# Altium integrated library Cypress Clocks & Buffers Clock Distribution.IntLib: 321 symbols (part 2 of 25)
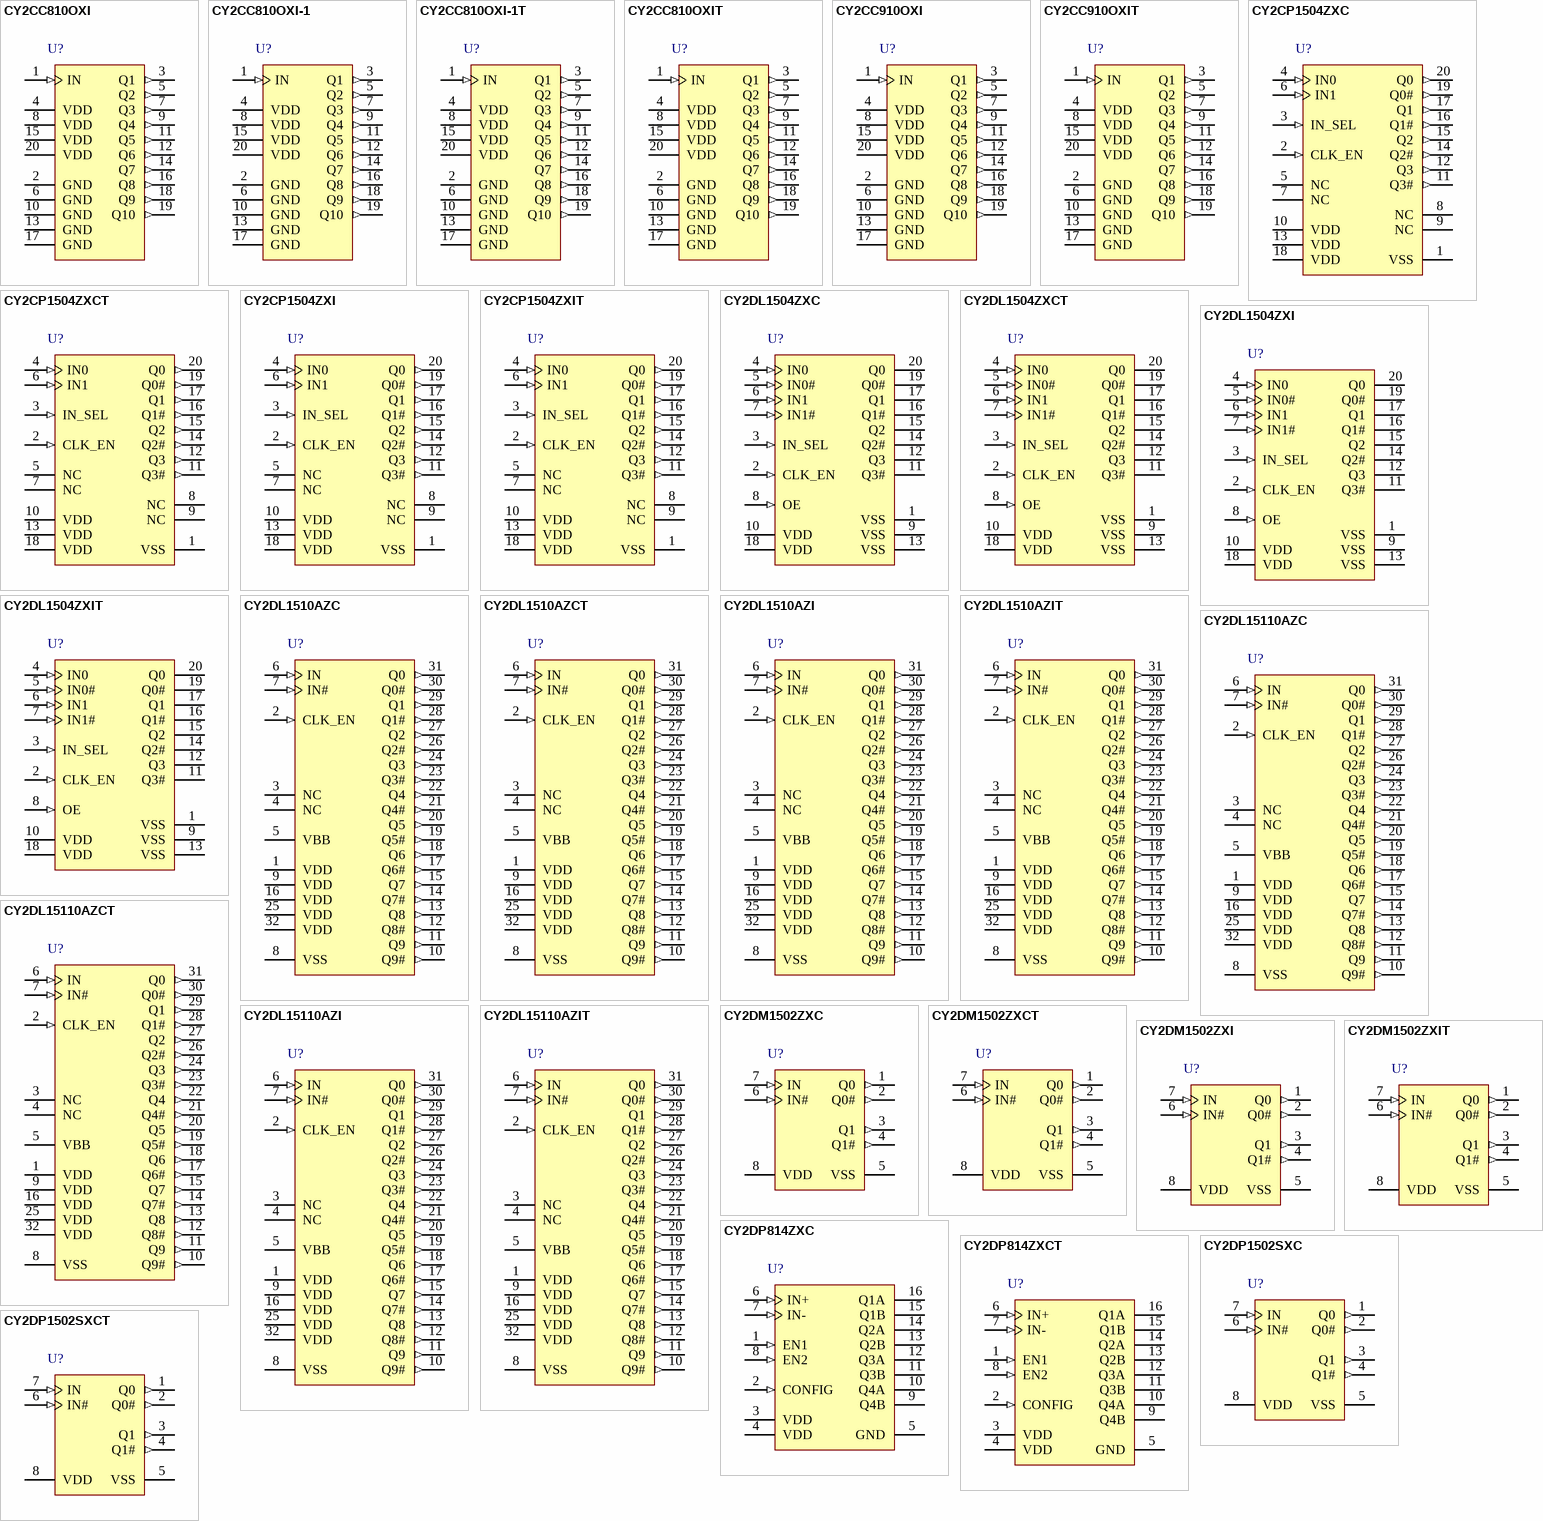
[diagram p17: symbols CY2CC810OXI to CY2DP1502SXCT]

## CY2DL15110AZI
designator U?
1:10 Differential LVDS Fanout Buffer with Selectable Clock Input, 2.5 / 3.3 V, 10 Outputs, 1500 MHz Maximum, -40 to 85 degC, 32-Pin TQFP (AX32), Tube; Manufacturer: Cypress; PartNumber: CY2DL15110AZI; Input Frequency Max. (MHz): 1500; Max. Operating Voltage (V): 3.465; Min. Operating Voltage (V): 2.375; No. of Outputs: 10; DatasheetVersion: Rev. *C; PackageVersion: Rev. *D, 07/2011; PackageReference: AX32; PackageDescription: 32-Pin Thin Plastic Quad Flatpack, Body 7 x 7 mm, Pitch 0.8 mm; Supplier 1: Digi-Key; Supplier Part Number 1: CY2DL15110AZI-ND; Supplier 2: Mouser; Supplier Part Number 2: 727-CY2DL15110AZI; Max. Operating Temp. (degreesC): 85; Min. Operating Temp. (degreesC): -40; Output Frequency Max. (MHz): 1500; Packing: Tube; RoHS: Pb-Free; Mounting Technology: Surface Mount; ComponentLink1Description: Manufacturer URL; ComponentLink1URL: http://www.cypress.com/; ComponentLink2Description: Datasheet; ComponentLink2URL: http://www.cypress.com/?docID=40977; ComponentLink3Description: Package Specification; ComponentLink3URL: http://www.cypress.com/?docID=39155
footprint CYP-AX32-51-85063_N (QFP, 32-Leads, Body 7x7mm, Pitch 0.8mm, IPC Medium Density)
footprint CYP-AX32-51-85063_L (QFP, 32-Leads, Body 7x7mm, Pitch 0.8mm, IPC High Density)
footprint CYP-AX32-51-85063_M (QFP, 32-Leads, Body 7x7mm, Pitch 0.8mm, IPC Low Density)
pins: 1 VDD (power) "Power supply", 2 CLK_EN (in) "Synchronous clock enable. Low-voltage complementary metal oxide semiconductor (LVCMOS)/low-voltage transistor-transistor-logic (LVTTL). When CLK_EN = Low, Q(0:9) outputs are held low and Q(0:9)# outputs are held high", 3 NC "No connection", 4 NC "No connection", 5 VBB (power) "LVDS reference voltage output", 6 IN (in) "LVDS input clock", 7 IN# (in) "LVDS complementary input clock", 8 VSS (power) "Ground", 9 VDD (power) "Power supply", 10 Q9# (out) "LVDS complementary output clocks", 11 Q9 (out) "LVDS output clocks", 12 Q8# (out) "LVDS complementary output clocks", 13 Q8 (out) "LVDS output clocks", 14 Q7# (out) "LVDS complementary output clocks", 15 Q7 (out) "LVDS output clocks", 16 VDD (power) "Power supply", 17 Q6# (out) "LVDS complementary output clocks", 18 Q6 (out) "LVDS output clocks", 19 Q5# (out) "LVDS complementary output clocks", 20 Q5 (out) "LVDS output clocks", 21 Q4# (out) "LVDS complementary output clocks", 22 Q4 (out) "LVDS output clocks", 23 Q3# (out) "LVDS complementary output clocks", 24 Q3 (out) "LVDS output clocks", 25 VDD (power) "Power supply", 26 Q2# (out) "LVDS complementary output clocks", 27 Q2 (out) "LVDS output clocks", 28 Q1# (out) "LVDS complementary output clocks", 29 Q1 (out) "LVDS output clocks", 30 Q0# (out) "LVDS complementary output clocks", 31 Q0 (out) "LVDS output clocks", 32 VDD (power) "Power supply"

## CY2DL15110AZIT
designator U?
1:10 Differential LVDS Fanout Buffer with Selectable Clock Input, 2.5 / 3.3 V, 10 Outputs, 1500 MHz Maximum, -40 to 85 degC, 32-Pin TQFP (AX32), Tape and Reel; Manufacturer: Cypress; PartNumber: CY2DL15110AZIT; Input Frequency Max. (MHz): 1500; Max. Operating Voltage (V): 3.465; Min. Operating Voltage (V): 2.375; No. of Outputs: 10; DatasheetVersion: Rev. *C; PackageVersion: Rev. *D, 07/2011; PackageReference: AX32; PackageDescription: 32-Pin Thin Plastic Quad Flatpack, Body 7 x 7 mm, Pitch 0.8 mm; Supplier 1: Digi-Key; Supplier Part Number 1: CY2DL15110AZIT-ND; Supplier 2: Mouser; Supplier Part Number 2: 727-CY2DL15110AZIT; Max. Operating Temp. (degreesC): 85; Min. Operating Temp. (degreesC): -40; Output Frequency Max. (MHz): 1500; Packing: Tape and Reel; RoHS: Pb-Free; Mounting Technology: Surface Mount; ComponentLink1Description: Manufacturer URL; ComponentLink1URL: http://www.cypress.com/; ComponentLink2Description: Datasheet; ComponentLink2URL: http://www.cypress.com/?docID=40977; ComponentLink3Description: Package Specification; ComponentLink3URL: http://www.cypress.com/?docID=39155
footprint CYP-AX32-51-85063_N (QFP, 32-Leads, Body 7x7mm, Pitch 0.8mm, IPC Medium Density)
footprint CYP-AX32-51-85063_L (QFP, 32-Leads, Body 7x7mm, Pitch 0.8mm, IPC High Density)
footprint CYP-AX32-51-85063_M (QFP, 32-Leads, Body 7x7mm, Pitch 0.8mm, IPC Low Density)
pins: 1 VDD (power) "Power supply", 2 CLK_EN (in) "Synchronous clock enable. Low-voltage complementary metal oxide semiconductor (LVCMOS)/low-voltage transistor-transistor-logic (LVTTL). When CLK_EN = Low, Q(0:9) outputs are held low and Q(0:9)# outputs are held high", 3 NC "No connection", 4 NC "No connection", 5 VBB (power) "LVDS reference voltage output", 6 IN (in) "LVDS input clock", 7 IN# (in) "LVDS complementary input clock", 8 VSS (power) "Ground", 9 VDD (power) "Power supply", 10 Q9# (out) "LVDS complementary output clocks", 11 Q9 (out) "LVDS output clocks", 12 Q8# (out) "LVDS complementary output clocks", 13 Q8 (out) "LVDS output clocks", 14 Q7# (out) "LVDS complementary output clocks", 15 Q7 (out) "LVDS output clocks", 16 VDD (power) "Power supply", 17 Q6# (out) "LVDS complementary output clocks", 18 Q6 (out) "LVDS output clocks", 19 Q5# (out) "LVDS complementary output clocks", 20 Q5 (out) "LVDS output clocks", 21 Q4# (out) "LVDS complementary output clocks", 22 Q4 (out) "LVDS output clocks", 23 Q3# (out) "LVDS complementary output clocks", 24 Q3 (out) "LVDS output clocks", 25 VDD (power) "Power supply", 26 Q2# (out) "LVDS complementary output clocks", 27 Q2 (out) "LVDS output clocks", 28 Q1# (out) "LVDS complementary output clocks", 29 Q1 (out) "LVDS output clocks", 30 Q0# (out) "LVDS complementary output clocks", 31 Q0 (out) "LVDS output clocks", 32 VDD (power) "Power supply"

## CY2DM1502ZXC
designator U?
1:2 CML / LVPECL Input to CML Output Fanout Buffer, 2.5 / 3.3 V, 2 Outputs, 1500 MHz Maximum, 0 to 70 degC, 8-Pin TSSOP (ZX8), Tube; Manufacturer: Cypress; PartNumber: CY2DM1502ZXC; Input Frequency Max. (MHz): 1500; Max. Operating Voltage (V): 3.465; Min. Operating Voltage (V): 2.375; No. of Outputs: 2; DatasheetVersion: Rev. *F; PackageVersion: Rev. *D, 09/2011; PackageReference: ZX8; PackageDescription: 8-Pin Thin Shrink Small Outline Package, Body 3 x 4.4 mm, Pitch 0.65 mm; Supplier 1: Digi-Key; Supplier Part Number 1: CY2DM1502ZXC-ND; Supplier 2: Mouser; Supplier Part Number 2: 727-CY2DM1502ZXC; Max. Operating Temp. (degreesC): 70; Min. Operating Temp. (degreesC): 0; Output Frequency Max. (MHz): 1500; Packing: Tube; RoHS: Pb-Free; Mounting Technology: Surface Mount; Code_JEDEC: MO-153; ComponentLink1Description: Manufacturer URL; ComponentLink1URL: http://www.cypress.com/; ComponentLink2Description: Datasheet; ComponentLink2URL: http://www.cypress.com/?docID=27544; ComponentLink3Description: Package Specification; ComponentLink3URL: http://www.cypress.com/?docID=39142
footprint CYP-ZX8_N (SOP, 8-Leads, Body 4.5x3.1mm, Pitch 0.65mm, IPC Medium Density)
footprint CYP-ZX8_L (SOP, 8-Leads, Body 4.5x3.1mm, Pitch 0.65mm, IPC High Density)
footprint CYP-ZX8_M (SOP, 8-Leads, Body 4.5x3.1mm, Pitch 0.65mm, IPC Low Density)
pins: 1 Q0 (out) "CML output clocks", 2 Q0# (out) "CML complementary output clocks", 3 Q1 (out) "CML output clocks", 4 Q1# (out) "CML complementary output clocks", 5 VSS (power) "Ground", 6 IN# (in) "CML/LVPECL complementary input clock", 7 IN (in) "CML/LVPECL input clock", 8 VDD (power) "Power supply"

## CY2DM1502ZXCT
designator U?
1:2 CML / LVPECL Input to CML Output Fanout Buffer, 2.5 / 3.3 V, 2 Outputs, 1500 MHz Maximum, 0 to 70 degC, 8-Pin TSSOP (ZX8), Tape and Reel; Manufacturer: Cypress; PartNumber: CY2DM1502ZXCT; Input Frequency Max. (MHz): 1500; Max. Operating Voltage (V): 3.465; Min. Operating Voltage (V): 2.375; No. of Outputs: 2; DatasheetVersion: Rev. *F; PackageVersion: Rev. *D, 09/2011; PackageReference: ZX8; PackageDescription: 8-Pin Thin Shrink Small Outline Package, Body 3 x 4.4 mm, Pitch 0.65 mm; Supplier 1: Digi-Key; Supplier Part Number 1: CY2DM1502ZXCT-ND; Supplier 2: Mouser; Supplier Part Number 2: 727-CY2DM1502ZXCT; Max. Operating Temp. (degreesC): 70; Min. Operating Temp. (degreesC): 0; Output Frequency Max. (MHz): 1500; Packing: Tape and Reel; RoHS: Pb-Free; Mounting Technology: Surface Mount; Code_JEDEC: MO-153; ComponentLink1Description: Manufacturer URL; ComponentLink1URL: http://www.cypress.com/; ComponentLink2Description: Datasheet; ComponentLink2URL: http://www.cypress.com/?docID=27544; ComponentLink3Description: Package Specification; ComponentLink3URL: http://www.cypress.com/?docID=39142
footprint CYP-ZX8_N (SOP, 8-Leads, Body 4.5x3.1mm, Pitch 0.65mm, IPC Medium Density)
footprint CYP-ZX8_L (SOP, 8-Leads, Body 4.5x3.1mm, Pitch 0.65mm, IPC High Density)
footprint CYP-ZX8_M (SOP, 8-Leads, Body 4.5x3.1mm, Pitch 0.65mm, IPC Low Density)
pins: 1 Q0 (out) "CML output clocks", 2 Q0# (out) "CML complementary output clocks", 3 Q1 (out) "CML output clocks", 4 Q1# (out) "CML complementary output clocks", 5 VSS (power) "Ground", 6 IN# (in) "CML/LVPECL complementary input clock", 7 IN (in) "CML/LVPECL input clock", 8 VDD (power) "Power supply"

## CY2DM1502ZXI
designator U?
1:2 CML / LVPECL Input to CML Output Fanout Buffer, 2.5 / 3.3 V, 2 Outputs, 1500 MHz Maximum, -40 to 85 degC, 8-Pin TSSOP (ZX8), Tube; Manufacturer: Cypress; PartNumber: CY2DM1502ZXI; Input Frequency Max. (MHz): 1500; Max. Operating Voltage (V): 3.465; Min. Operating Voltage (V): 2.375; No. of Outputs: 2; DatasheetVersion: Rev. *F; PackageVersion: Rev. *D, 09/2011; PackageReference: ZX8; PackageDescription: 8-Pin Thin Shrink Small Outline Package, Body 3 x 4.4 mm, Pitch 0.65 mm; Supplier 1: Digi-Key; Supplier Part Number 1: CY2DM1502ZXI-ND; Supplier 2: Mouser; Supplier Part Number 2: 727-CY2DM1502ZXI; Max. Operating Temp. (degreesC): 85; Min. Operating Temp. (degreesC): -40; Output Frequency Max. (MHz): 1500; Packing: Tube; RoHS: Pb-Free; Mounting Technology: Surface Mount; Code_JEDEC: MO-153; ComponentLink1Description: Manufacturer URL; ComponentLink1URL: http://www.cypress.com/; ComponentLink2Description: Datasheet; ComponentLink2URL: http://www.cypress.com/?docID=27544; ComponentLink3Description: Package Specification; ComponentLink3URL: http://www.cypress.com/?docID=39142
footprint CYP-ZX8_N (SOP, 8-Leads, Body 4.5x3.1mm, Pitch 0.65mm, IPC Medium Density)
footprint CYP-ZX8_L (SOP, 8-Leads, Body 4.5x3.1mm, Pitch 0.65mm, IPC High Density)
footprint CYP-ZX8_M (SOP, 8-Leads, Body 4.5x3.1mm, Pitch 0.65mm, IPC Low Density)
pins: 1 Q0 (out) "CML output clocks", 2 Q0# (out) "CML complementary output clocks", 3 Q1 (out) "CML output clocks", 4 Q1# (out) "CML complementary output clocks", 5 VSS (power) "Ground", 6 IN# (in) "CML/LVPECL complementary input clock", 7 IN (in) "CML/LVPECL input clock", 8 VDD (power) "Power supply"

## CY2DM1502ZXIT
designator U?
1:2 CML / LVPECL Input to CML Output Fanout Buffer, 2.5 / 3.3 V, 2 Outputs, 1500 MHz Maximum, -40 to 85 degC, 8-Pin TSSOP (ZX8), Tape and Reel; Manufacturer: Cypress; PartNumber: CY2DM1502ZXIT; Input Frequency Max. (MHz): 1500; Max. Operating Voltage (V): 3.465; Min. Operating Voltage (V): 2.375; No. of Outputs: 2; DatasheetVersion: Rev. *F; PackageVersion: Rev. *D, 09/2011; PackageReference: ZX8; PackageDescription: 8-Pin Thin Shrink Small Outline Package, Body 3 x 4.4 mm, Pitch 0.65 mm; Supplier 1: Digi-Key; Supplier Part Number 1: CY2DM1502ZXIT-ND; Supplier 2: Mouser; Supplier Part Number 2: 727-CY2DM1502ZXIT; Max. Operating Temp. (degreesC): 85; Min. Operating Temp. (degreesC): -40; Output Frequency Max. (MHz): 1500; Packing: Tape and Reel; RoHS: Pb-Free; Mounting Technology: Surface Mount; Code_JEDEC: MO-153; ComponentLink1Description: Manufacturer URL; ComponentLink1URL: http://www.cypress.com/; ComponentLink2Description: Datasheet; ComponentLink2URL: http://www.cypress.com/?docID=27544; ComponentLink3Description: Package Specification; ComponentLink3URL: http://www.cypress.com/?docID=39142
footprint CYP-ZX8_N (SOP, 8-Leads, Body 4.5x3.1mm, Pitch 0.65mm, IPC Medium Density)
footprint CYP-ZX8_L (SOP, 8-Leads, Body 4.5x3.1mm, Pitch 0.65mm, IPC High Density)
footprint CYP-ZX8_M (SOP, 8-Leads, Body 4.5x3.1mm, Pitch 0.65mm, IPC Low Density)
pins: 1 Q0 (out) "CML output clocks", 2 Q0# (out) "CML complementary output clocks", 3 Q1 (out) "CML output clocks", 4 Q1# (out) "CML complementary output clocks", 5 VSS (power) "Ground", 6 IN# (in) "CML/LVPECL complementary input clock", 7 IN (in) "CML/LVPECL input clock", 8 VDD (power) "Power supply"

## CY2DP814ZXC
designator U?
1:4 Clock Fanout Buffer, 3.3 V, 4 Outputs, 450 MHz Maximum, 0 to 70 degC, 16-Pin TSSOP (ZX16), Tube; Manufacturer: Cypress; PartNumber: CY2DP814ZXC; Input Frequency Max. (MHz): 450; Max. Operating Voltage (V): 3.465; Min. Operating Voltage (V): 3.135; No. of Outputs: 4; DatasheetVersion: Rev. *H; PackageVersion: Rev. *D, 09/2011; PackageReference: ZX16; PackageDescription: 16-Pin Thin Shrink Small Outline Package, Body 5 x 4.4 mm, Pitch 0.65 mm; Supplier 1: Digi-Key; Supplier Part Number 1: CY2DP814ZXC-ND; Supplier 2: Mouser; Supplier Part Number 2: 727-CY2DP814ZXC; Max. Operating Temp. (degreesC): 70; Min. Operating Temp. (degreesC): 0; Output Frequency Max. (MHz): 450; Packing: Tube; RoHS: Pb-Free; Mounting Technology: Surface Mount; Code_JEDEC: MO-153; ComponentLink1Description: Manufacturer URL; ComponentLink1URL: http://www.cypress.com/; ComponentLink2Description: Datasheet; ComponentLink2URL: http://www.cypress.com/?docID=30628; ComponentLink3Description: Package Specification; ComponentLink3URL: http://www.cypress.com/?docID=39143
footprint CYP-ZX16_N (SOP, 16-Leads, Body 5.1x4.5mm, Pitch 0.65mm, IPC Medium Density)
footprint CYP-ZX16_L (SOP, 16-Leads, Body 5.1x4.5mm, Pitch 0.65mm, IPC High Density)
footprint CYP-ZX16_M (SOP, 16-Leads, Body 5.1x4.5mm, Pitch 0.65mm, IPC Low Density)
pins: 1 EN1 (in) "Enable/disable logic. See Function Table below for details.", 2 CONFIG (in) "Converts inputs from the default LVPECL/LVDS(logic = 0) to LVTTL/LVCMOS(logic = 1). See Figure 6 on page 8 and Figure 7 on page 9 for additional information", 3 VDD (power) "Positive supply voltage.", 4 VDD (power) "Positive supply voltage.", 5 GND (power) "Ground.", 6 IN+ (in) "Differential input pair or single line. LVPECL default. See CONFIG below.", 7 IN- (in) "Differential input pair or single line. LVPECL default. See CONFIG below.", 8 EN2 (in) "Enable/disable logic. See Function Table below for details.", 9 Q4B (hiz) "Differential outputs.", 10 Q4A (hiz) "Differential outputs.", 11 Q3B (hiz) "Differential outputs.", 12 Q3A (hiz) "Differential outputs.", 13 Q2B (hiz) "Differential outputs.", 14 Q2A (hiz) "Differential outputs.", 15 Q1B (hiz) "Differential outputs.", 16 Q1A (hiz) "Differential outputs."

## CY2DP814ZXCT
designator U?
1:4 Clock Fanout Buffer, 3.3 V, 4 Outputs, 450 MHz Maximum, 0 to 70 degC, 16-Pin TSSOP (ZX16), Tape and Reel; Manufacturer: Cypress; PartNumber: CY2DP814ZXCT; Input Frequency Max. (MHz): 450; Max. Operating Voltage (V): 3.465; Min. Operating Voltage (V): 3.135; No. of Outputs: 4; DatasheetVersion: Rev. *H; PackageVersion: Rev. *D, 09/2011; PackageReference: ZX16; PackageDescription: 16-Pin Thin Shrink Small Outline Package, Body 5 x 4.4 mm, Pitch 0.65 mm; Supplier 1: Digi-Key; Supplier Part Number 1: CY2DP814ZXCT-ND; Supplier 2: Mouser; Supplier Part Number 2: 727-CY2DP814ZXCT; Max. Operating Temp. (degreesC): 70; Min. Operating Temp. (degreesC): 0; Output Frequency Max. (MHz): 450; Packing: Tape and Reel; RoHS: Pb-Free; Mounting Technology: Surface Mount; Code_JEDEC: MO-153; ComponentLink1Description: Manufacturer URL; ComponentLink1URL: http://www.cypress.com/; ComponentLink2Description: Datasheet; ComponentLink2URL: http://www.cypress.com/?docID=30628; ComponentLink3Description: Package Specification; ComponentLink3URL: http://www.cypress.com/?docID=39143
footprint CYP-ZX16_N (SOP, 16-Leads, Body 5.1x4.5mm, Pitch 0.65mm, IPC Medium Density)
footprint CYP-ZX16_L (SOP, 16-Leads, Body 5.1x4.5mm, Pitch 0.65mm, IPC High Density)
footprint CYP-ZX16_M (SOP, 16-Leads, Body 5.1x4.5mm, Pitch 0.65mm, IPC Low Density)
pins: 1 EN1 (in) "Enable/disable logic. See Function Table below for details.", 2 CONFIG (in) "Converts inputs from the default LVPECL/LVDS(logic = 0) to LVTTL/LVCMOS(logic = 1). See Figure 6 on page 8 and Figure 7 on page 9 for additional information", 3 VDD (power) "Positive supply voltage.", 4 VDD (power) "Positive supply voltage.", 5 GND (power) "Ground.", 6 IN+ (in) "Differential input pair or single line. LVPECL default. See CONFIG below.", 7 IN- (in) "Differential input pair or single line. LVPECL default. See CONFIG below.", 8 EN2 (in) "Enable/disable logic. See Function Table below for details.", 9 Q4B (hiz) "Differential outputs.", 10 Q4A (hiz) "Differential outputs.", 11 Q3B (hiz) "Differential outputs.", 12 Q3A (hiz) "Differential outputs.", 13 Q2B (hiz) "Differential outputs.", 14 Q2A (hiz) "Differential outputs.", 15 Q1B (hiz) "Differential outputs.", 16 Q1A (hiz) "Differential outputs."

## CY2DP1502SXC
designator U?
1:2 LVPECL Fanout Buffer, 2.5 / 3.3 V, 2 Outputs, 1500 MHz Maximum, 0 to 70 degC, 8-Pin SOIC (SX8), Tube; Manufacturer: Cypress; PartNumber: CY2DP1502SXC; Input Frequency Max. (MHz): 1500; Max. Operating Voltage (V): 3.465; Min. Operating Voltage (V): 2.375; No. of Outputs: 2; DatasheetVersion: Rev. *K; PackageVersion: Rev. *E, 06/2011; PackageReference: SX8; PackageDescription: 8-pin Lead SOIC-S08, Body 4.89 x 3.90 mm,Pitch 1.27 mm; Supplier 1: Digi-Key; Supplier Part Number 1: CY2DP1502SXC-ND; Supplier 2: Mouser; Supplier Part Number 2: 727-CY2DP1502SXC; Max. Operating Temp. (degreesC): 70; Min. Operating Temp. (degreesC): 0; Output Frequency Max. (MHz): 1500; Packing: Tube; RoHS: Pb-Free; Mounting Technology: Surface Mount; Code_JEDEC: MS-012; ComponentLink1Description: Manufacturer URL; ComponentLink1URL: http://www.cypress.com/; ComponentLink2Description: Datasheet; ComponentLink2URL: http://www.cypress.com/?docID=42201; ComponentLink3Description: Package Specification; ComponentLink3URL: http://www.cypress.com/?docID=39153
footprint CYP-SX8_N (SOIC, 8-Leads, Body 4.89x3.90mm, Pitch 1.27mm, IPC Medium Density)
footprint CYP-SX8_L (SOIC, 8-Leads, Body 4.89x3.90mm, Pitch 1.27mm, IPC High Density)
footprint CYP-SX8_M (SOIC, 8-Leads, Body 4.89x3.90mm, Pitch 1.27mm, IPC Low Density)
pins: 1 Q0 (out) "LVPECL output clocks", 2 Q0# (out) "LVPECL complementary output clocks", 3 Q1 (out) "LVPECL output clocks", 4 Q1# (out) "LVPECL complementary output clocks", 5 VSS (power) "Ground", 6 IN# (in) "Differential (LVPECL, LVDS, HCSL, or CML) complementary input clock", 7 IN (in) "Differential (LVPECL, LVDS, HCSL, or CML) input clock", 8 VDD (power) "Power supply"

## CY2DP1502SXCT
designator U?
1:2 LVPECL Fanout Buffer, 2.5 / 3.3 V, 2 Outputs, 1500 MHz Maximum, 0 to 70 degC, 8-Pin SOIC (SX8), Tape and Reel; Manufacturer: Cypress; PartNumber: CY2DP1502SXCT; Input Frequency Max. (MHz): 1500; Max. Operating Voltage (V): 3.465; Min. Operating Voltage (V): 2.375; No. of Outputs: 2; DatasheetVersion: Rev. *K; PackageVersion: Rev. *E, 06/2011; PackageReference: SX8; PackageDescription: 8-pin Lead SOIC-S08, Body 4.89 x 3.90 mm,Pitch 1.27 mm; Supplier 1: Digi-Key; Supplier Part Number 1: CY2DP1502SXCT-ND; Supplier 2: Mouser; Supplier Part Number 2: 727-CY2DP1502SXCT; Max. Operating Temp. (degreesC): 70; Min. Operating Temp. (degreesC): 0; Output Frequency Max. (MHz): 1500; Packing: Tape and Reel; RoHS: Pb-Free; Mounting Technology: Surface Mount; Code_JEDEC: MS-012; ComponentLink1Description: Manufacturer URL; ComponentLink1URL: http://www.cypress.com/; ComponentLink2Description: Datasheet; ComponentLink2URL: http://www.cypress.com/?docID=42201; ComponentLink3Description: Package Specification; ComponentLink3URL: http://www.cypress.com/?docID=39153
footprint CYP-SX8_N (SOIC, 8-Leads, Body 4.89x3.90mm, Pitch 1.27mm, IPC Medium Density)
footprint CYP-SX8_L (SOIC, 8-Leads, Body 4.89x3.90mm, Pitch 1.27mm, IPC High Density)
footprint CYP-SX8_M (SOIC, 8-Leads, Body 4.89x3.90mm, Pitch 1.27mm, IPC Low Density)
pins: 1 Q0 (out) "LVPECL output clocks", 2 Q0# (out) "LVPECL complementary output clocks", 3 Q1 (out) "LVPECL output clocks", 4 Q1# (out) "LVPECL complementary output clocks", 5 VSS (power) "Ground", 6 IN# (in) "Differential (LVPECL, LVDS, HCSL, or CML) complementary input clock", 7 IN (in) "Differential (LVPECL, LVDS, HCSL, or CML) input clock", 8 VDD (power) "Power supply"

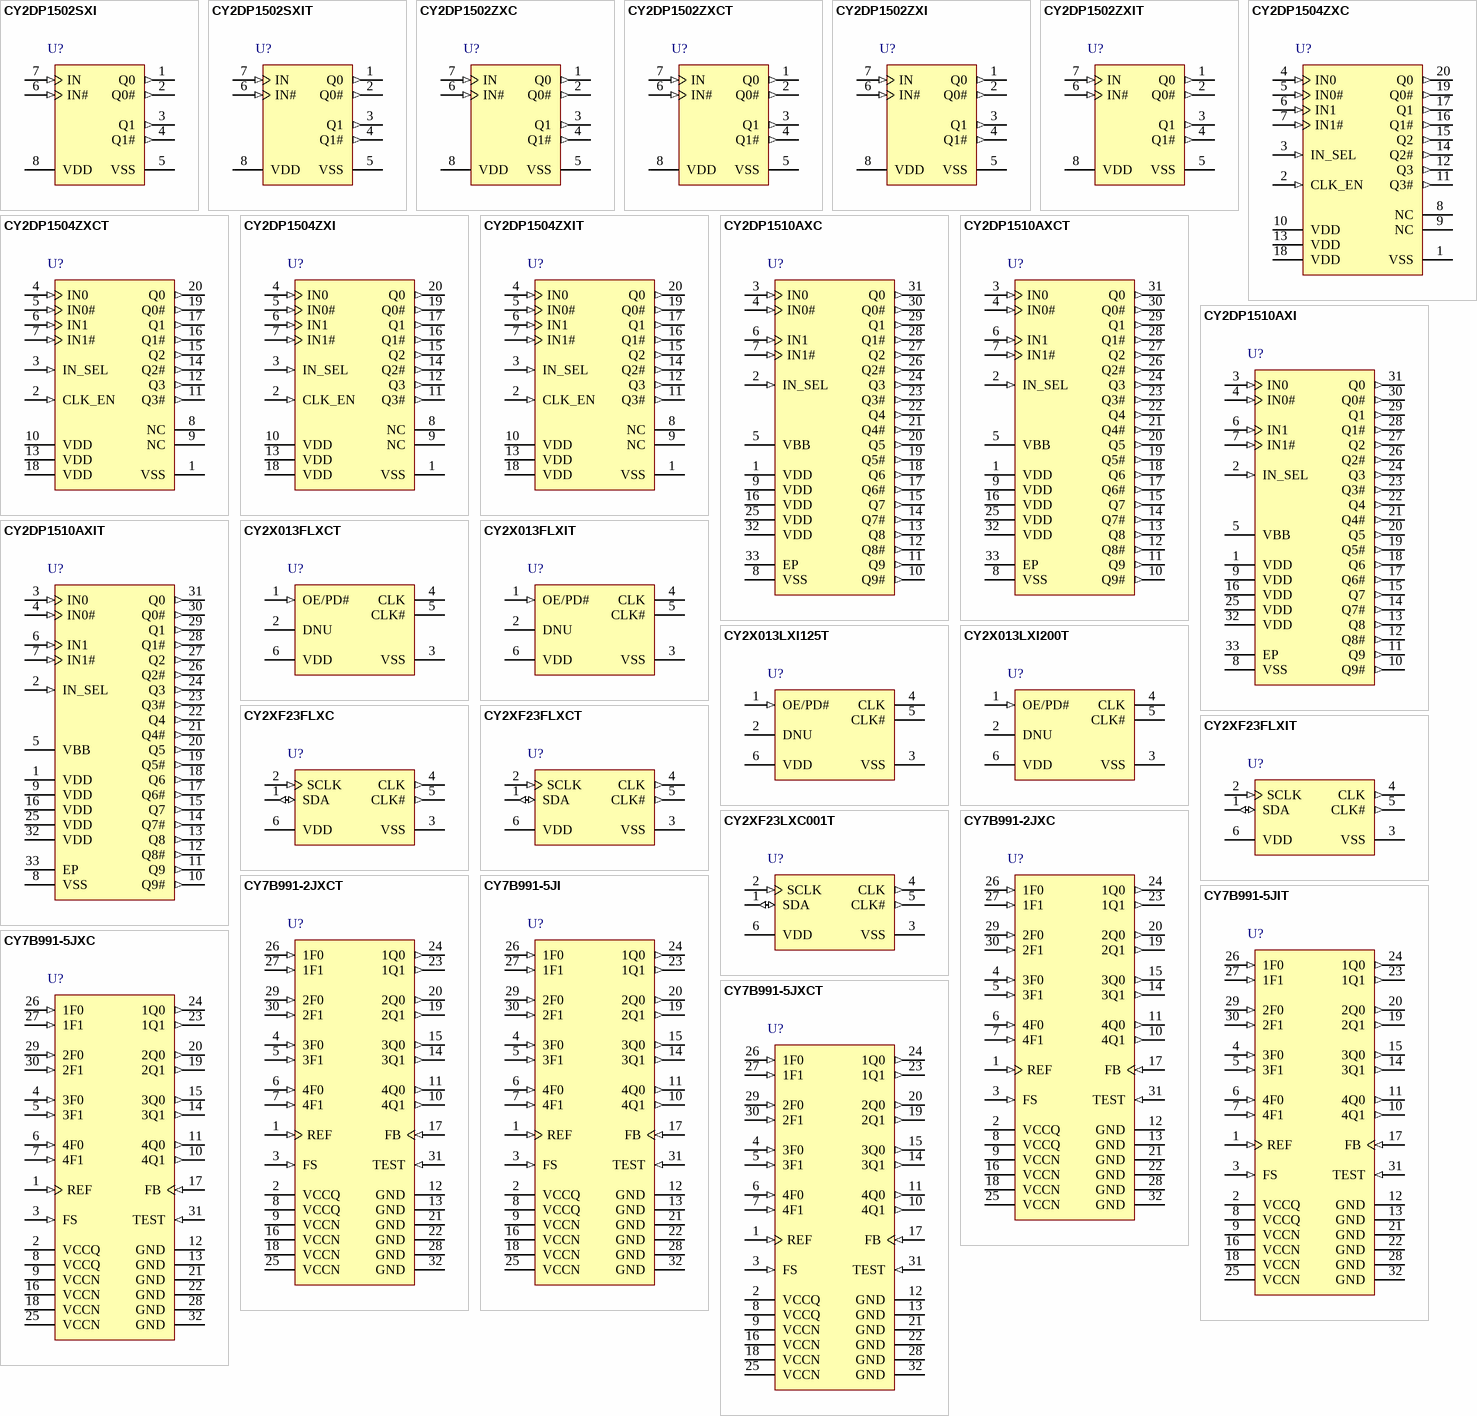
[diagram p1: symbols CY2DP1502SXI to CY7B991-5JXCT]

## CY2DP1502SXI
designator U?
1:2 LVPECL Fanout Buffer, 2.5 / 3.3 V, 2 Outputs, 1500 MHz Maximum, -40 to 85 degC, 8-Pin SOIC (SX8), Tube; Manufacturer: Cypress; PartNumber: CY2DP1502SXI; Input Frequency Max. (MHz): 1500; Max. Operating Voltage (V): 3.465; Min. Operating Voltage (V): 2.375; No. of Outputs: 2; DatasheetVersion: Rev. *K; PackageVersion: Rev. *E, 06/2011; PackageReference: SX8; PackageDescription: 8-pin Lead SOIC-S08, Body 4.89 x 3.90 mm,Pitch 1.27 mm; Supplier 1: Digi-Key; Supplier Part Number 1: CY2DP1502SXI-ND; Supplier 2: Mouser; Supplier Part Number 2: 727-CY2DP1502SXI; Max. Operating Temp. (degreesC): 85; Min. Operating Temp. (degreesC): -40; Output Frequency Max. (MHz): 1500; Packing: Tube; RoHS: Pb-Free; Mounting Technology: Surface Mount; Code_JEDEC: MS-012; ComponentLink1Description: Manufacturer URL; ComponentLink1URL: http://www.cypress.com/; ComponentLink2Description: Datasheet; ComponentLink2URL: http://www.cypress.com/?docID=42201; ComponentLink3Description: Package Specification; ComponentLink3URL: http://www.cypress.com/?docID=39153
footprint CYP-SX8_N (SOIC, 8-Leads, Body 4.89x3.90mm, Pitch 1.27mm, IPC Medium Density)
footprint CYP-SX8_L (SOIC, 8-Leads, Body 4.89x3.90mm, Pitch 1.27mm, IPC High Density)
footprint CYP-SX8_M (SOIC, 8-Leads, Body 4.89x3.90mm, Pitch 1.27mm, IPC Low Density)
pins: 1 Q0 (out) "LVPECL output clocks", 2 Q0# (out) "LVPECL complementary output clocks", 3 Q1 (out) "LVPECL output clocks", 4 Q1# (out) "LVPECL complementary output clocks", 5 VSS (power) "Ground", 6 IN# (in) "Differential (LVPECL, LVDS, HCSL, or CML) complementary input clock", 7 IN (in) "Differential (LVPECL, LVDS, HCSL, or CML) input clock", 8 VDD (power) "Power supply"

## CY2DP1502SXIT
designator U?
1:2 LVPECL Fanout Buffer, 2.5 / 3.3 V, 2 Outputs, 1500 MHz Maximum, -40 to 85 degC, 8-Pin SOIC (SX8), Tape and Reel; Manufacturer: Cypress; PartNumber: CY2DP1502SXIT; Input Frequency Max. (MHz): 1500; Max. Operating Voltage (V): 3.465; Min. Operating Voltage (V): 2.375; No. of Outputs: 2; DatasheetVersion: Rev. *K; PackageVersion: Rev. *E, 06/2011; PackageReference: SX8; PackageDescription: 8-pin Lead SOIC-S08, Body 4.89 x 3.90 mm,Pitch 1.27 mm; Supplier 1: Digi-Key; Supplier Part Number 1: CY2DP1502SXIT-ND; Supplier 2: Mouser; Supplier Part Number 2: 727-CY2DP1502SXIT; Max. Operating Temp. (degreesC): 85; Min. Operating Temp. (degreesC): -40; Output Frequency Max. (MHz): 1500; Packing: Tape and Reel; RoHS: Pb-Free; Mounting Technology: Surface Mount; Code_JEDEC: MS-012; ComponentLink1Description: Manufacturer URL; ComponentLink1URL: http://www.cypress.com/; ComponentLink2Description: Datasheet; ComponentLink2URL: http://www.cypress.com/?docID=42201; ComponentLink3Description: Package Specification; ComponentLink3URL: http://www.cypress.com/?docID=39153
footprint CYP-SX8_N (SOIC, 8-Leads, Body 4.89x3.90mm, Pitch 1.27mm, IPC Medium Density)
footprint CYP-SX8_L (SOIC, 8-Leads, Body 4.89x3.90mm, Pitch 1.27mm, IPC High Density)
footprint CYP-SX8_M (SOIC, 8-Leads, Body 4.89x3.90mm, Pitch 1.27mm, IPC Low Density)
pins: 1 Q0 (out) "LVPECL output clocks", 2 Q0# (out) "LVPECL complementary output clocks", 3 Q1 (out) "LVPECL output clocks", 4 Q1# (out) "LVPECL complementary output clocks", 5 VSS (power) "Ground", 6 IN# (in) "Differential (LVPECL, LVDS, HCSL, or CML) complementary input clock", 7 IN (in) "Differential (LVPECL, LVDS, HCSL, or CML) input clock", 8 VDD (power) "Power supply"

## CY2DP1502ZXC
designator U?
1:2 LVPECL Fanout Buffer, 2.5 / 3.3 V, 2 Outputs, 1500 MHz Maximum, 0 to 70 degC, 8-Pin TSSOP (ZX8), Tube; Manufacturer: Cypress; PartNumber: CY2DP1502ZXC; Input Frequency Max. (MHz): 1500; Max. Operating Voltage (V): 3.465; Min. Operating Voltage (V): 2.375; No. of Outputs: 2; DatasheetVersion: Rev. *K; PackageVersion: Rev. *D, 09/2011; PackageReference: ZX8; PackageDescription: 8-Pin Thin Shrink Small Outline Package, Body 3 x 4.4 mm, Pitch 0.65 mm; Supplier 1: Digi-Key; Supplier Part Number 1: CY2DP1502ZXC-ND; Supplier 2: Mouser; Supplier Part Number 2: 727-CY2DP1502ZXC; Max. Operating Temp. (degreesC): 70; Min. Operating Temp. (degreesC): 0; Output Frequency Max. (MHz): 1500; Packing: Tube; RoHS: Pb-Free; Mounting Technology: Surface Mount; Code_JEDEC: MO-153; ComponentLink1Description: Manufacturer URL; ComponentLink1URL: http://www.cypress.com/; ComponentLink2Description: Datasheet; ComponentLink2URL: http://www.cypress.com/?docID=42201; ComponentLink3Description: Package Specification; ComponentLink3URL: http://www.cypress.com/?docID=39142
footprint CYP-ZX8_N (SOP, 8-Leads, Body 4.5x3.1mm, Pitch 0.65mm, IPC Medium Density)
footprint CYP-ZX8_L (SOP, 8-Leads, Body 4.5x3.1mm, Pitch 0.65mm, IPC High Density)
footprint CYP-ZX8_M (SOP, 8-Leads, Body 4.5x3.1mm, Pitch 0.65mm, IPC Low Density)
pins: 1 Q0 (out) "LVPECL output clocks", 2 Q0# (out) "LVPECL complementary output clocks", 3 Q1 (out) "LVPECL output clocks", 4 Q1# (out) "LVPECL complementary output clocks", 5 VSS (power) "Ground", 6 IN# (in) "Differential (LVPECL, LVDS, HCSL, or CML) complementary input clock", 7 IN (in) "Differential (LVPECL, LVDS, HCSL, or CML) input clock", 8 VDD (power) "Power supply"

## CY2DP1502ZXCT
designator U?
1:2 LVPECL Fanout Buffer, 2.5 / 3.3 V, 2 Outputs, 1500 MHz Maximum, 0 to 70 degC, 8-Pin TSSOP (ZX8), Tape and Reel; Manufacturer: Cypress; PartNumber: CY2DP1502ZXCT; Input Frequency Max. (MHz): 1500; Max. Operating Voltage (V): 3.465; Min. Operating Voltage (V): 2.375; No. of Outputs: 2; DatasheetVersion: Rev. *K; PackageVersion: Rev. *D, 09/2011; PackageReference: ZX8; PackageDescription: 8-Pin Thin Shrink Small Outline Package, Body 3 x 4.4 mm, Pitch 0.65 mm; Supplier 1: Digi-Key; Supplier Part Number 1: CY2DP1502ZXCT-ND; Supplier 2: Mouser; Supplier Part Number 2: 727-CY2DP1502ZXCT; Max. Operating Temp. (degreesC): 70; Min. Operating Temp. (degreesC): 0; Output Frequency Max. (MHz): 1500; Packing: Tape and Reel; RoHS: Pb-Free; Mounting Technology: Surface Mount; Code_JEDEC: MO-153; ComponentLink1Description: Manufacturer URL; ComponentLink1URL: http://www.cypress.com/; ComponentLink2Description: Datasheet; ComponentLink2URL: http://www.cypress.com/?docID=42201; ComponentLink3Description: Package Specification; ComponentLink3URL: http://www.cypress.com/?docID=39142
footprint CYP-ZX8_N (SOP, 8-Leads, Body 4.5x3.1mm, Pitch 0.65mm, IPC Medium Density)
footprint CYP-ZX8_L (SOP, 8-Leads, Body 4.5x3.1mm, Pitch 0.65mm, IPC High Density)
footprint CYP-ZX8_M (SOP, 8-Leads, Body 4.5x3.1mm, Pitch 0.65mm, IPC Low Density)
pins: 1 Q0 (out) "LVPECL output clocks", 2 Q0# (out) "LVPECL complementary output clocks", 3 Q1 (out) "LVPECL output clocks", 4 Q1# (out) "LVPECL complementary output clocks", 5 VSS (power) "Ground", 6 IN# (in) "Differential (LVPECL, LVDS, HCSL, or CML) complementary input clock", 7 IN (in) "Differential (LVPECL, LVDS, HCSL, or CML) input clock", 8 VDD (power) "Power supply"

## CY2DP1502ZXI
designator U?
1:2 LVPECL Fanout Buffer, 2.5 / 3.3 V, 2 Outputs, 1500 MHz Maximum, -40 to 85 degC, 8-Pin TSSOP (ZX8), Tube; Manufacturer: Cypress; PartNumber: CY2DP1502ZXI; Input Frequency Max. (MHz): 1500; Max. Operating Voltage (V): 3.465; Min. Operating Voltage (V): 2.375; No. of Outputs: 2; DatasheetVersion: Rev. *K; PackageVersion: Rev. *D, 09/2011; PackageReference: ZX8; PackageDescription: 8-Pin Thin Shrink Small Outline Package, Body 3 x 4.4 mm, Pitch 0.65 mm; Supplier 1: Digi-Key; Supplier Part Number 1: CY2DP1502ZXI-ND; Supplier 2: Mouser; Supplier Part Number 2: 727-CY2DP1502ZXI; Max. Operating Temp. (degreesC): 85; Min. Operating Temp. (degreesC): -40; Output Frequency Max. (MHz): 1500; Packing: Tube; RoHS: Pb-Free; Mounting Technology: Surface Mount; Code_JEDEC: MO-153; ComponentLink1Description: Manufacturer URL; ComponentLink1URL: http://www.cypress.com/; ComponentLink2Description: Datasheet; ComponentLink2URL: http://www.cypress.com/?docID=42201; ComponentLink3Description: Package Specification; ComponentLink3URL: http://www.cypress.com/?docID=39142
footprint CYP-ZX8_N (SOP, 8-Leads, Body 4.5x3.1mm, Pitch 0.65mm, IPC Medium Density)
footprint CYP-ZX8_L (SOP, 8-Leads, Body 4.5x3.1mm, Pitch 0.65mm, IPC High Density)
footprint CYP-ZX8_M (SOP, 8-Leads, Body 4.5x3.1mm, Pitch 0.65mm, IPC Low Density)
pins: 1 Q0 (out) "LVPECL output clocks", 2 Q0# (out) "LVPECL complementary output clocks", 3 Q1 (out) "LVPECL output clocks", 4 Q1# (out) "LVPECL complementary output clocks", 5 VSS (power) "Ground", 6 IN# (in) "Differential (LVPECL, LVDS, HCSL, or CML) complementary input clock", 7 IN (in) "Differential (LVPECL, LVDS, HCSL, or CML) input clock", 8 VDD (power) "Power supply"

## CY2DP1502ZXIT
designator U?
1:2 LVPECL Fanout Buffer, 2.5 / 3.3 V, 2 Outputs, 1500 MHz Maximum, -40 to 85 degC, 8-Pin TSSOP (ZX8), Tape and Reel; Manufacturer: Cypress; PartNumber: CY2DP1502ZXIT; Input Frequency Max. (MHz): 1500; Max. Operating Voltage (V): 3.465; Min. Operating Voltage (V): 2.375; No. of Outputs: 2; DatasheetVersion: Rev. *K; PackageVersion: Rev. *D, 09/2011; PackageReference: ZX8; PackageDescription: 8-Pin Thin Shrink Small Outline Package, Body 3 x 4.4 mm, Pitch 0.65 mm; Supplier 1: Digi-Key; Supplier Part Number 1: CY2DP1502ZXIT-ND; Supplier 2: Mouser; Supplier Part Number 2: 727-CY2DP1502ZXIT; Max. Operating Temp. (degreesC): 85; Min. Operating Temp. (degreesC): -40; Output Frequency Max. (MHz): 1500; Packing: Tape and Reel; RoHS: Pb-Free; Mounting Technology: Surface Mount; Code_JEDEC: MO-153; ComponentLink1Description: Manufacturer URL; ComponentLink1URL: http://www.cypress.com/; ComponentLink2Description: Datasheet; ComponentLink2URL: http://www.cypress.com/?docID=42201; ComponentLink3Description: Package Specification; ComponentLink3URL: http://www.cypress.com/?docID=39142
footprint CYP-ZX8_N (SOP, 8-Leads, Body 4.5x3.1mm, Pitch 0.65mm, IPC Medium Density)
footprint CYP-ZX8_L (SOP, 8-Leads, Body 4.5x3.1mm, Pitch 0.65mm, IPC High Density)
footprint CYP-ZX8_M (SOP, 8-Leads, Body 4.5x3.1mm, Pitch 0.65mm, IPC Low Density)
pins: 1 Q0 (out) "LVPECL output clocks", 2 Q0# (out) "LVPECL complementary output clocks", 3 Q1 (out) "LVPECL output clocks", 4 Q1# (out) "LVPECL complementary output clocks", 5 VSS (power) "Ground", 6 IN# (in) "Differential (LVPECL, LVDS, HCSL, or CML) complementary input clock", 7 IN (in) "Differential (LVPECL, LVDS, HCSL, or CML) input clock", 8 VDD (power) "Power supply"

## CY2DP1504ZXC
designator U?
1:4 LVPECL Fanout Buffer with Selectable Clock Input, 2.5 / 3.3 V, 4 Outputs, 1500 MHz Maximum, 0 to 70 degC, 20-Pin TSSOP (ZX20), Tube; Manufacturer: Cypress; PartNumber: CY2DP1504ZXC; Input Frequency Max. (MHz): 1500; Max. Operating Voltage (V): 3.465; Min. Operating Voltage (V): 2.375; No. of Outputs: 4; DatasheetVersion: Rev. *F; PackageVersion: Rev. *D, 09/2011; PackageReference: ZX20; PackageDescription: 20-Pin Thin Shrink Small Outline Package, Body 6.5 x 4.4 mm, Pitch 0.65 mm; Supplier 1: Digi-Key; Supplier Part Number 1: CY2DP1504ZXC-ND; Supplier 2: Mouser; Supplier Part Number 2: 727-CY2DP1504ZXC; Max. Operating Temp. (degreesC): 70; Min. Operating Temp. (degreesC): 0; Output Frequency Max. (MHz): 1500; Packing: Tube; RoHS: Pb-Free; Mounting Technology: Surface Mount; Code_JEDEC: MO-153; ComponentLink1Description: Manufacturer URL; ComponentLink1URL: http://www.cypress.com/; ComponentLink2Description: Datasheet; ComponentLink2URL: http://www.cypress.com/?docID=27542; ComponentLink3Description: Package Specification; ComponentLink3URL: http://www.cypress.com/?docID=39121
footprint CYP-ZX20_N (SOP, 20-Leads, Body 6.6x4.5mm, Pitch 0.65mm, IPC Medium Density)
footprint CYP-ZX20_L (SOP, 20-Leads, Body 6.6x4.5mm, Pitch 0.65mm, IPC High Density)
footprint CYP-ZX20_M (SOP, 20-Leads, Body 6.6x4.5mm, Pitch 0.65mm, IPC Low Density)
pins: 1 VSS (power) "Ground", 2 CLK_EN (in) "Synchronous clock enable. Low-voltage complementary metal oxide semiconductor (LVCMOS)/low-voltage transistor-transistor-logic (LVTTL). When CLK_EN = Low, Q(0:3) outputs are held Low and Q(0:3)# outputs are held High", 3 IN_SEL (in) "Input clock select pin. LVCMOS/LVTTL; When IN_SEL = Low, the IN0/IN0# differential input pair is active When IN_SEL = High, the IN1/IN1# differential input pair is active", 4 IN0 (in) "LVPECL input clock. Active when IN_SEL = Low", 5 IN0# (in) "LVPECL complementary input clock. Active when IN_SEL = Low", 6 IN1 (in) "LVPECL input clock. Active when IN_SEL = High", 7 IN1# (in) "LVPECL complementary input clock. Active when IN_SEL = High", 8 NC "No connection", 9 NC "No connection", 10 VDD (power) "Power supply", 11 Q3# (out) "LVPECL complementary output clocks", 12 Q3 (out) "LVPECL output clocks", 13 VDD (power) "Power supply", 14 Q2# (out) "LVPECL complementary output clocks", 15 Q2 (out) "LVPECL output clocks", 16 Q1# (out) "LVPECL complementary output clocks", 17 Q1 (out) "LVPECL output clocks", 18 VDD (power) "Power supply", 19 Q0# (out) "LVPECL complementary output clocks", 20 Q0 (out) "LVPECL output clocks"

## CY2DP1504ZXCT
designator U?
1:4 LVPECL Fanout Buffer with Selectable Clock Input, 2.5 / 3.3 V, 4 Outputs, 1500 MHz Maximum, 0 to 70 degC, 20-Pin TSSOP (ZX20), Tape and Reel; Manufacturer: Cypress; PartNumber: CY2DP1504ZXCT; Input Frequency Max. (MHz): 1500; Max. Operating Voltage (V): 3.465; Min. Operating Voltage (V): 2.375; No. of Outputs: 4; DatasheetVersion: Rev. *F; PackageVersion: Rev. *D, 09/2011; PackageReference: ZX20; PackageDescription: 20-Pin Thin Shrink Small Outline Package, Body 6.5 x 4.4 mm, Pitch 0.65 mm; Supplier 1: Digi-Key; Supplier Part Number 1: CY2DP1504ZXCT-ND; Supplier 2: Mouser; Supplier Part Number 2: 727-CY2DP1504ZXCT; Max. Operating Temp. (degreesC): 70; Min. Operating Temp. (degreesC): 0; Output Frequency Max. (MHz): 1500; Packing: Tape and Reel; RoHS: Pb-Free; Mounting Technology: Surface Mount; Code_JEDEC: MO-153; ComponentLink1Description: Manufacturer URL; ComponentLink1URL: http://www.cypress.com/; ComponentLink2Description: Datasheet; ComponentLink2URL: http://www.cypress.com/?docID=27542; ComponentLink3Description: Package Specification; ComponentLink3URL: http://www.cypress.com/?docID=39121
footprint CYP-ZX20_N (SOP, 20-Leads, Body 6.6x4.5mm, Pitch 0.65mm, IPC Medium Density)
footprint CYP-ZX20_L (SOP, 20-Leads, Body 6.6x4.5mm, Pitch 0.65mm, IPC High Density)
footprint CYP-ZX20_M (SOP, 20-Leads, Body 6.6x4.5mm, Pitch 0.65mm, IPC Low Density)
pins: 1 VSS (power) "Ground", 2 CLK_EN (in) "Synchronous clock enable. Low-voltage complementary metal oxide semiconductor (LVCMOS)/low-voltage transistor-transistor-logic (LVTTL). When CLK_EN = Low, Q(0:3) outputs are held Low and Q(0:3)# outputs are held High", 3 IN_SEL (in) "Input clock select pin. LVCMOS/LVTTL; When IN_SEL = Low, the IN0/IN0# differential input pair is active When IN_SEL = High, the IN1/IN1# differential input pair is active", 4 IN0 (in) "LVPECL input clock. Active when IN_SEL = Low", 5 IN0# (in) "LVPECL complementary input clock. Active when IN_SEL = Low", 6 IN1 (in) "LVPECL input clock. Active when IN_SEL = High", 7 IN1# (in) "LVPECL complementary input clock. Active when IN_SEL = High", 8 NC "No connection", 9 NC "No connection", 10 VDD (power) "Power supply", 11 Q3# (out) "LVPECL complementary output clocks", 12 Q3 (out) "LVPECL output clocks", 13 VDD (power) "Power supply", 14 Q2# (out) "LVPECL complementary output clocks", 15 Q2 (out) "LVPECL output clocks", 16 Q1# (out) "LVPECL complementary output clocks", 17 Q1 (out) "LVPECL output clocks", 18 VDD (power) "Power supply", 19 Q0# (out) "LVPECL complementary output clocks", 20 Q0 (out) "LVPECL output clocks"

## CY2DP1504ZXI
designator U?
1:4 LVPECL Fanout Buffer with Selectable Clock Input, 2.5 / 3.3 V, 4 Outputs, 1500 MHz Maximum, -40 to 85 degC, 20-Pin TSSOP (ZX20), Tube; Manufacturer: Cypress; PartNumber: CY2DP1504ZXI; Input Frequency Max. (MHz): 1500; Max. Operating Voltage (V): 3.465; Min. Operating Voltage (V): 2.375; No. of Outputs: 4; DatasheetVersion: Rev. *F; PackageVersion: Rev. *D, 09/2011; PackageReference: ZX20; PackageDescription: 20-Pin Thin Shrink Small Outline Package, Body 6.5 x 4.4 mm, Pitch 0.65 mm; Supplier 1: Digi-Key; Supplier Part Number 1: CY2DP1504ZXI-ND; Supplier 2: Mouser; Supplier Part Number 2: 727-CY2DP1504ZXI; Max. Operating Temp. (degreesC): 85; Min. Operating Temp. (degreesC): -40; Output Frequency Max. (MHz): 1500; Packing: Tube; RoHS: Pb-Free; Mounting Technology: Surface Mount; Code_JEDEC: MO-153; ComponentLink1Description: Manufacturer URL; ComponentLink1URL: http://www.cypress.com/; ComponentLink2Description: Datasheet; ComponentLink2URL: http://www.cypress.com/?docID=27542; ComponentLink3Description: Package Specification; ComponentLink3URL: http://www.cypress.com/?docID=39121
footprint CYP-ZX20_N (SOP, 20-Leads, Body 6.6x4.5mm, Pitch 0.65mm, IPC Medium Density)
footprint CYP-ZX20_L (SOP, 20-Leads, Body 6.6x4.5mm, Pitch 0.65mm, IPC High Density)
footprint CYP-ZX20_M (SOP, 20-Leads, Body 6.6x4.5mm, Pitch 0.65mm, IPC Low Density)
pins: 1 VSS (power) "Ground", 2 CLK_EN (in) "Synchronous clock enable. Low-voltage complementary metal oxide semiconductor (LVCMOS)/low-voltage transistor-transistor-logic (LVTTL). When CLK_EN = Low, Q(0:3) outputs are held Low and Q(0:3)# outputs are held High", 3 IN_SEL (in) "Input clock select pin. LVCMOS/LVTTL; When IN_SEL = Low, the IN0/IN0# differential input pair is active When IN_SEL = High, the IN1/IN1# differential input pair is active", 4 IN0 (in) "LVPECL input clock. Active when IN_SEL = Low", 5 IN0# (in) "LVPECL complementary input clock. Active when IN_SEL = Low", 6 IN1 (in) "LVPECL input clock. Active when IN_SEL = High", 7 IN1# (in) "LVPECL complementary input clock. Active when IN_SEL = High", 8 NC "No connection", 9 NC "No connection", 10 VDD (power) "Power supply", 11 Q3# (out) "LVPECL complementary output clocks", 12 Q3 (out) "LVPECL output clocks", 13 VDD (power) "Power supply", 14 Q2# (out) "LVPECL complementary output clocks", 15 Q2 (out) "LVPECL output clocks", 16 Q1# (out) "LVPECL complementary output clocks", 17 Q1 (out) "LVPECL output clocks", 18 VDD (power) "Power supply", 19 Q0# (out) "LVPECL complementary output clocks", 20 Q0 (out) "LVPECL output clocks"

## CY2DP1504ZXIT
designator U?
1:4 LVPECL Fanout Buffer with Selectable Clock Input, 2.5 / 3.3 V, 4 Outputs, 1500 MHz Maximum, -40 to 85 degC, 20-Pin TSSOP (ZX20), Tape and Reel; Manufacturer: Cypress; PartNumber: CY2DP1504ZXIT; Input Frequency Max. (MHz): 1500; Max. Operating Voltage (V): 3.465; Min. Operating Voltage (V): 2.375; No. of Outputs: 4; DatasheetVersion: Rev. *F; PackageVersion: Rev. *D, 09/2011; PackageReference: ZX20; PackageDescription: 20-Pin Thin Shrink Small Outline Package, Body 6.5 x 4.4 mm, Pitch 0.65 mm; Supplier 1: Digi-Key; Supplier Part Number 1: CY2DP1504ZXIT-ND; Supplier 2: Mouser; Supplier Part Number 2: 727-CY2DP1504ZXIT; Max. Operating Temp. (degreesC): 85; Min. Operating Temp. (degreesC): -40; Output Frequency Max. (MHz): 1500; Packing: Tape and Reel; RoHS: Pb-Free; Mounting Technology: Surface Mount; Code_JEDEC: MO-153; ComponentLink1Description: Manufacturer URL; ComponentLink1URL: http://www.cypress.com/; ComponentLink2Description: Datasheet; ComponentLink2URL: http://www.cypress.com/?docID=27542; ComponentLink3Description: Package Specification; ComponentLink3URL: http://www.cypress.com/?docID=39121
footprint CYP-ZX20_N (SOP, 20-Leads, Body 6.6x4.5mm, Pitch 0.65mm, IPC Medium Density)
footprint CYP-ZX20_L (SOP, 20-Leads, Body 6.6x4.5mm, Pitch 0.65mm, IPC High Density)
footprint CYP-ZX20_M (SOP, 20-Leads, Body 6.6x4.5mm, Pitch 0.65mm, IPC Low Density)
pins: 1 VSS (power) "Ground", 2 CLK_EN (in) "Synchronous clock enable. Low-voltage complementary metal oxide semiconductor (LVCMOS)/low-voltage transistor-transistor-logic (LVTTL). When CLK_EN = Low, Q(0:3) outputs are held Low and Q(0:3)# outputs are held High", 3 IN_SEL (in) "Input clock select pin. LVCMOS/LVTTL; When IN_SEL = Low, the IN0/IN0# differential input pair is active When IN_SEL = High, the IN1/IN1# differential input pair is active", 4 IN0 (in) "LVPECL input clock. Active when IN_SEL = Low", 5 IN0# (in) "LVPECL complementary input clock. Active when IN_SEL = Low", 6 IN1 (in) "LVPECL input clock. Active when IN_SEL = High", 7 IN1# (in) "LVPECL complementary input clock. Active when IN_SEL = High", 8 NC "No connection", 9 NC "No connection", 10 VDD (power) "Power supply", 11 Q3# (out) "LVPECL complementary output clocks", 12 Q3 (out) "LVPECL output clocks", 13 VDD (power) "Power supply", 14 Q2# (out) "LVPECL complementary output clocks", 15 Q2 (out) "LVPECL output clocks", 16 Q1# (out) "LVPECL complementary output clocks", 17 Q1 (out) "LVPECL output clocks", 18 VDD (power) "Power supply", 19 Q0# (out) "LVPECL complementary output clocks", 20 Q0 (out) "LVPECL output clocks"

## CY2DP1510AXC
designator U?
1:10 LVPECL Fanout Buffer with Selectable Clock Input, 2.5 / 3.3 V, 10 Outputs, 1500 MHz Maximum, 0 to 70 degC, 32-Pin TQFP (AX32), Tray; Manufacturer: Cypress; PartNumber: CY2DP1510AXC; Input Frequency Max. (MHz): 1500; Max. Operating Voltage (V): 3.465; Min. Operating Voltage (V): 2.375; No. of Outputs: 10; DatasheetVersion: Rev. *A; PackageVersion: Rev. *A; PackageReference: AX32; PackageDescription: 32-Pin Thin Plastic Quad Flat Pack, Body 7 x 7 mm, Pitch 0.8 mm; Supplier 1: Digi-Key; Supplier Part Number 1: CY2DP1510AXC-ND; Supplier 2: Mouser; Supplier Part Number 2: 727-CY2DP1510AXC; Max. Operating Temp. (degreesC): 70; Min. Operating Temp. (degreesC): 0; Output Frequency Max. (MHz): 1500; Packing: Tray; RoHS: Pb-Free; Mounting Technology: Surface Mount; Code_JEDEC: MS-026; ComponentLink1Description: Manufacturer URL; ComponentLink1URL: http://www.cypress.com/; ComponentLink2Description: Datasheet; ComponentLink2URL: http://www.cypress.com/?docID=28236; ComponentLink3Description: Package Specification; ComponentLink3URL: http://www.cypress.com/?docID=28236
footprint CYP-AX32-3500X3500TP_N (QFP, 32-Leads, Body 7x7mm, Pitch 0.8mm, Thermal Pad 3.5x3.5mm, IPC Medium Density)
footprint CYP-AX32-3500X3500TP_L (QFP, 32-Leads, Body 7x7mm, Pitch 0.8mm, Thermal Pad 3.5x3.5mm, IPC High Density)
footprint CYP-AX32-3500X3500TP_M (QFP, 32-Leads, Body 7x7mm, Pitch 0.8mm, Thermal Pad 3.5x3.5mm, IPC Low Density)
pins: 1 VDD (power) "Power supply", 2 IN_SEL (in) "Input clock select pin. Low-voltage complementary metal oxide semiconductor (LVCMOS)/low-voltage transistor-transistor-logic (LVTTL). When IN_SEL = Low, the IN0/IN0# differential input pair is active When IN_SEL = High, the (See Datasheet)", 3 IN0 (in) "LVPECL input clock. Active when IN_SEL = Low", 4 IN0# (in) "LVPECL complementary input clock. Active when IN_SEL = Low", 5 VBB (power) "LVPECL reference voltage output", 6 IN1 (in) "LVPECL input clock. Active when IN_SEL = High", 7 IN1# (in) "LVPECL complementary input clock. Active when IN_SEL = High", 8 VSS (power) "Ground", 9 VDD (power) "Power supply", 10 Q9# (out) "LVPECL complementary output clocks", 11 Q9 (out) "LVPECL output clocks", 12 Q8# (out) "LVPECL complementary output clocks", 13 Q8 (out) "LVPECL output clocks", 14 Q7# (out) "LVPECL complementary output clocks", 15 Q7 (out) "LVPECL output clocks", 16 VDD (power) "Power supply", 17 Q6# (out) "LVPECL complementary output clocks", 18 Q6 (out) "LVPECL output clocks", 19 Q5# (out) "LVPECL complementary output clocks", 20 Q5 (out) "LVPECL output clocks", 21 Q4# (out) "LVPECL complementary output clocks", 22 Q4 (out) "LVPECL output clocks", 23 Q3# (out) "LVPECL complementary output clocks", 24 Q3 (out) "LVPECL output clocks", 25 VDD (power) "Power supply", 26 Q2# (out) "LVPECL complementary output clocks", 27 Q2 (out) "LVPECL output clocks", 28 Q1# (out) "LVPECL complementary output clocks", 29 Q1 (out) "LVPECL output clocks", 30 Q0# (out) "LVPECL complementary output clocks", 31 Q0 (out) "LVPECL output clocks", 32 VDD (power) "Power supply", 33 EP (power) "Exposed paddle. Connect to ground plane for package heat dissipation. No electrical connection."

## CY2DP1510AXCT
designator U?
1:10 LVPECL Fanout Buffer with Selectable Clock Input, 2.5 / 3.3 V, 10 Outputs, 1500 MHz Maximum, 0 to 70 degC, 32-Pin TQFP (AX32), Tape and Reel; Manufacturer: Cypress; PartNumber: CY2DP1510AXCT; Input Frequency Max. (MHz): 1500; Max. Operating Voltage (V): 3.465; Min. Operating Voltage (V): 2.375; No. of Outputs: 10; DatasheetVersion: Rev. *A; PackageVersion: Rev. *A; PackageReference: AX32; PackageDescription: 32-Pin Thin Plastic Quad Flat Pack, Body 7 x 7 mm, Pitch 0.8 mm; Supplier 1: Digi-Key; Supplier Part Number 1: CY2DP1510AXCT-ND; Supplier 2: Mouser; Supplier Part Number 2: 727-CY2DP1510AXCT; Max. Operating Temp. (degreesC): 70; Min. Operating Temp. (degreesC): 0; Output Frequency Max. (MHz): 1500; Packing: Tape and Reel; RoHS: Pb-Free; Mounting Technology: Surface Mount; Code_JEDEC: MS-026; ComponentLink1Description: Manufacturer URL; ComponentLink1URL: http://www.cypress.com/; ComponentLink2Description: Datasheet; ComponentLink2URL: http://www.cypress.com/?docID=28236; ComponentLink3Description: Package Specification; ComponentLink3URL: http://www.cypress.com/?docID=28236
footprint CYP-AX32-3500X3500TP_N (QFP, 32-Leads, Body 7x7mm, Pitch 0.8mm, Thermal Pad 3.5x3.5mm, IPC Medium Density)
footprint CYP-AX32-3500X3500TP_L (QFP, 32-Leads, Body 7x7mm, Pitch 0.8mm, Thermal Pad 3.5x3.5mm, IPC High Density)
footprint CYP-AX32-3500X3500TP_M (QFP, 32-Leads, Body 7x7mm, Pitch 0.8mm, Thermal Pad 3.5x3.5mm, IPC Low Density)
pins: 1 VDD (power) "Power supply", 2 IN_SEL (in) "Input clock select pin. Low-voltage complementary metal oxide semiconductor (LVCMOS)/low-voltage transistor-transistor-logic (LVTTL). When IN_SEL = Low, the IN0/IN0# differential input pair is active When IN_SEL = High, the (See Datasheet)", 3 IN0 (in) "LVPECL input clock. Active when IN_SEL = Low", 4 IN0# (in) "LVPECL complementary input clock. Active when IN_SEL = Low", 5 VBB (power) "LVPECL reference voltage output", 6 IN1 (in) "LVPECL input clock. Active when IN_SEL = High", 7 IN1# (in) "LVPECL complementary input clock. Active when IN_SEL = High", 8 VSS (power) "Ground", 9 VDD (power) "Power supply", 10 Q9# (out) "LVPECL complementary output clocks", 11 Q9 (out) "LVPECL output clocks", 12 Q8# (out) "LVPECL complementary output clocks", 13 Q8 (out) "LVPECL output clocks", 14 Q7# (out) "LVPECL complementary output clocks", 15 Q7 (out) "LVPECL output clocks", 16 VDD (power) "Power supply", 17 Q6# (out) "LVPECL complementary output clocks", 18 Q6 (out) "LVPECL output clocks", 19 Q5# (out) "LVPECL complementary output clocks", 20 Q5 (out) "LVPECL output clocks", 21 Q4# (out) "LVPECL complementary output clocks", 22 Q4 (out) "LVPECL output clocks", 23 Q3# (out) "LVPECL complementary output clocks", 24 Q3 (out) "LVPECL output clocks", 25 VDD (power) "Power supply", 26 Q2# (out) "LVPECL complementary output clocks", 27 Q2 (out) "LVPECL output clocks", 28 Q1# (out) "LVPECL complementary output clocks", 29 Q1 (out) "LVPECL output clocks", 30 Q0# (out) "LVPECL complementary output clocks", 31 Q0 (out) "LVPECL output clocks", 32 VDD (power) "Power supply", 33 EP (power) "Exposed paddle. Connect to ground plane for package heat dissipation. No electrical connection."